# EAGLE library part 74AHCT125 (library launchpadParts)
74AHCT125 Quad Level Shifter Data Sheet: https://cdn-shop.adafruit.com/product-files/1787/1787AHC125.pdf
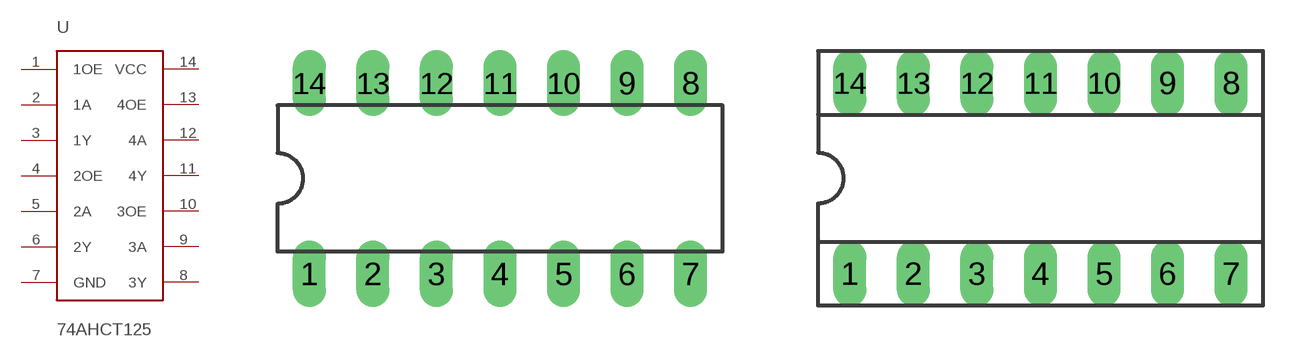
[diagram p1: symbol with the pads of DIL14; footprints DIL14, SOCKET-14]

Designator prefix -

## 74AHCT125DIP  [DIL14]
1  1OE
2  1A  in
3  1Y  out
4  2OE
5  2A  in
6  2Y  out
7  GND  pwr
8  3Y  out
9  3A  in
10  3OE
11  4Y  out
12  4A  in
13  4OE
14  VCC  pwr

## 74AHCT125DIP-SOCKET  [SOCKET-14]
Pads as for DIL14

## Footprint DIL14 (pad centres in mm)
Dual In Line Package
drill 0.813 long: 1 -7.62,-3.81; 2 -5.08,-3.81; 3 -2.54,-3.81; 4 0,-3.81; 5 2.54,-3.81; 6 5.08,-3.81; 7 7.62,-3.81; 8 7.62,3.81; 9 5.08,3.81; 10 2.54,3.81; 11 0,3.81; 12 -2.54,3.81; 13 -5.08,3.81; 14 -7.62,3.81

## Footprint SOCKET-14 (pad centres in mm)
Dual In Line Socket
drill 0.813 long: 1 -7.62,-3.81; 2 -5.08,-3.81; 3 -2.54,-3.81; 4 0,-3.81; 5 2.54,-3.81; 6 5.08,-3.81; 7 7.62,-3.81; 8 7.62,3.81; 9 5.08,3.81; 10 2.54,3.81; 11 0,3.81; 12 -2.54,3.81; 13 -5.08,3.81; 14 -7.62,3.81